# Altium footprint library LED_1206_R.PcbLib: 2 footprints
Each footprint in its own frame and in the unit in brackets; x right, y up, seen from the top. Pads: shape width x height; smd on the part's side, far side on the other; paste and mask are expansions set on the pad; w line width, h text height; cw(c..) or ccw(c..) is an arc to the next point about the centre after c.
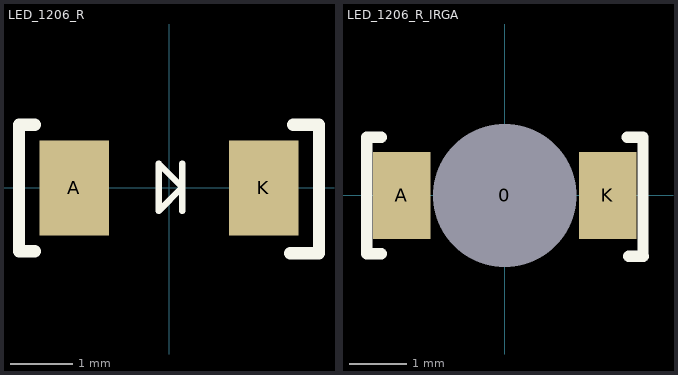
[diagram p0: the footprints below, top view; thin cyan lines are the x and y axes]

## LED_1206_R [mil]
height 29.53
pads (2):
  rect 44x60 smd: A(-60,0) K(60,0)
Top Overlay:
  lines w3.94: 8.44,-14.61 8.44,0.39 ; 8.44,-1.61 8.44,15.39 ; 8.44,0.39 -6.56,-14.61 -6.56,15.39 8.44,0.39
  lines w7.87: -85,-40 -95,-40 -95,40 -85,40 ; 76.77,-41.34 95,-41.34 95,40 78.74,40
3D body: height 43.31, standoff 0, extent -63.39,-31.5 63.39,31.5

## LED_1206_R_IRGA [mm]
height 0.75
pads (3):
  round 2.4 hole 2.5 unplated: 0(0,0)
  rect 1x1.524 smd: A(-1.8,0) K(1.8,0)
Top Overlay:
  lines w0.2: -2.159,-1.016 -2.413,-1.016 -2.413,1.016 -2.159,1.016 ; 2.137,1.016 2.391,1.016 ; 2.162,-1.059 2.416,-1.059 ; 2.413,-1.05 2.413,1.016
  text "T" at 0.675,-0.525 h2
3D body: height 0.5, standoff -0.6, extent -1.61,-0.8 1.61,0.8